# EAGLE library part PROG-HEADER_2X7 (library angrypig7-Connectors-Programming)
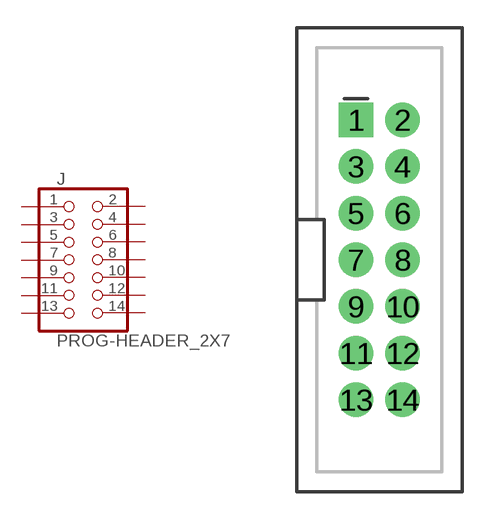
[diagram p6: symbol with the pads of 2X7-2.54MM-SHROUDED; footprint 2X7-2.54MM-SHROUDED]

Designator prefix J

## PROG-HEADER_2X7_SHROUDED  [2X7-2.54MM-SHROUDED]
1  1  pas
2  2  pwr
3  3  pas
4  4  pwr
5  5  pas
6  6  pwr
7  7  pas
8  8  pwr
9  9  pas
10  10  pwr
11  11  pas
12  12  pwr
13  13  pas
14  14  pwr

## Footprint 2X7-2.54MM-SHROUDED (pad centres in mm)
drill 1.016 pad 1.88 square: 1 -1.27,7.62
drill 1.016 pad 1.88: 2 1.27,7.62; 3 -1.27,5.08; 4 1.27,5.08; 5 -1.27,2.54; 6 1.27,2.54; 7 -1.27,0; 8 1.27,0; 9 -1.27,-2.54; 10 1.27,-2.54; 11 -1.27,-5.08; 12 1.27,-5.08; 13 -1.27,-7.62; 14 1.27,-7.62